# EAGLE library part SN74LVC2G14 (library _mtvl.logic)
Dual Schmitt-Trigger Inverter https://static.chipdip.ru/lib/021/DOC001021822.pdf
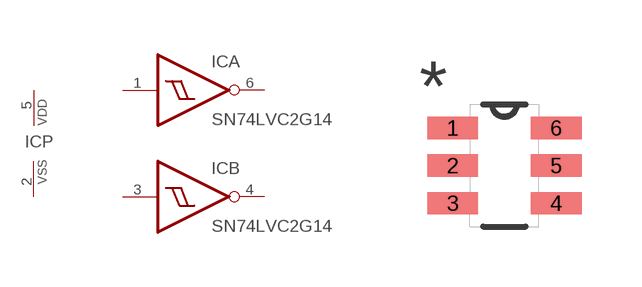
[diagram p1: symbol with the pads of SOT95P280X145-6N; footprint SOT95P280X145-6N]

Designator prefix IC; gates A=SCHMITT_INVERTING B=SCHMITT_INVERTING P=PWRN

## SN74LVC2G14DBV  [SOT95P280X145-6N]
1  A:I  in
2  P:VSS  pwr
3  B:I  in
4  B:O  out
5  P:VDD  pwr
6  A:O  out

## Footprint SOT95P280X145-6N (pad centres in mm)
smd 1.27 x 0.559: 1 -1.295,0.94; 2 -1.295,0; 3 -1.295,-0.94; 4 1.295,-0.94; 5 1.295,0; 6 1.295,0.94